# Altium footprint library 1051620001.PcbLib: 1 footprints
Each footprint in its own frame and in the unit in brackets; x right, y up, seen from the top. Pads: shape width x height; smd on the part's side, far side on the other; paste and mask are expansions set on the pad; w line width, h text height; cw(c..) or ccw(c..) is an arc to the next point about the centre after c.
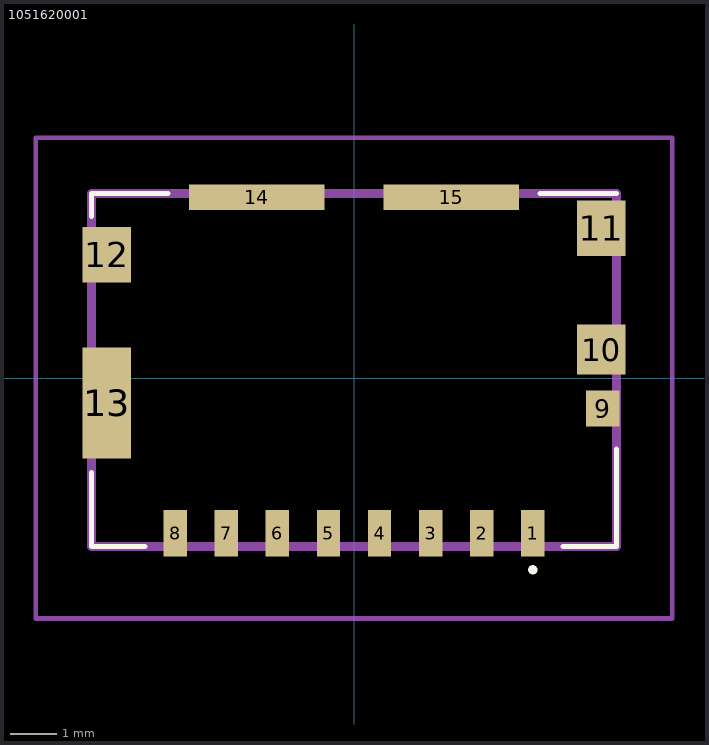
[diagram p0: the footprint, top view; thin cyan lines are the x and y axes]

## 1051620001 [mm]
pads (15):
  rect 0.5x1 smd: 1(3.85,-3.335) 2(2.75,-3.335) 3(1.65,-3.335) 4(0.55,-3.335) 5(-0.55,-3.335) 6(-1.65,-3.335) 7(-2.75,-3.335) 8(-3.85,-3.335)
  rect 0.72x0.78 smd: 9(5.36,-0.655)
  rect 1.05x1.08 smd: 10(5.325,0.615)
  rect 1.05x1.2 smd: 11(5.325,3.225) 12(-5.325,2.655)
  rect 1.05x2.39 smd: 13(-5.325,-0.53)
  rect 2.91x0.55 smd: 14(-2.095,3.9) 15(2.095,3.9)
L26-Silk Screen Top (Multiple PADS layers...):
  lines w0.1: -5.65,-2.025 -5.65,-3.625 -4.5,-3.625 ; -5.65,3.475 -5.65,3.975 -4,3.975 ; 4,3.975 5.65,3.975 ; 4.5,-3.625 5.65,-3.625 5.65,-1.525 ; 3.8,-4.125 3.8,-4.125 ; 3.8,-4.125 cw(c3.85,-4.125) 3.9,-4.125 ; 3.8,-4.125 ccw(c3.85,-4.125) 3.9,-4.125 ; 3.9,-4.125 3.9,-4.125
L15 (Multiple PADS layers...):
  lines w0.2: -5.65,-3.625 5.65,-3.625 5.65,3.975 -5.65,3.975 -5.65,-3.625
L20:
  lines w0.1: -6.85,-5.175 6.85,-5.175 6.85,5.175 -6.85,5.175 -6.85,-5.175